# EAGLE library part MSP430G2553 (library DC_LOAD_AU)
MSP430G2553 MSP430G2x53, MSP430G2x13 PDIP (N) 20 Pin Package http://focus.ti.com/docs/prod/folders/print/msp430g2553.html
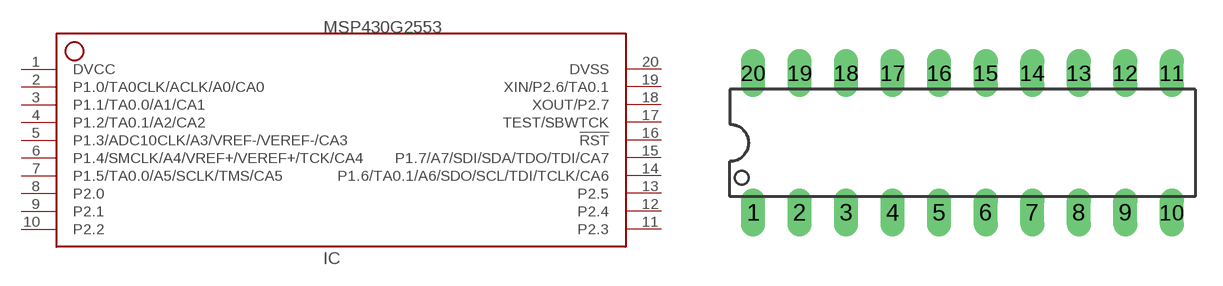
[diagram p0: symbol with the pads of N20; footprint N20]

Designator prefix IC

## MSP430G2553  [N20]
1  DVCC
2  P1.0/TA0CLK/ACLK/A0/CA0
3  P1.1/TA0.0/A1/CA1
4  P1.2/TA0.1/A2/CA2
5  P1.3/ADC10CLK/A3/VREF-/VEREF-/CA3
6  P1.4/SMCLK/A4/VREF+/VEREF+/TCK/CA4
7  P1.5/TA0.0/A5/SCLK/TMS/CA5
8  P2.0
9  P2.1
10  P2.2
11  P2.3
12  P2.4
13  P2.5
14  P1.6/TA0.1/A6/SDO/SCL/TDI/TCLK/CA6
15  P1.7/A7/SDI/SDA/TDO/TDI/CA7
16  !RST
17  TEST/SBWTCK
18  XOUT/P2.7
19  XIN/P2.6/TA0.1
20  DVSS

## Footprint N20 (pad centres in mm)
drill 0.813 long: 1 -11.435,-3.81; 2 -8.895,-3.81; 3 -6.355,-3.81; 4 -3.815,-3.81; 5 -1.275,-3.81; 6 1.265,-3.81; 7 3.805,-3.81; 8 6.345,-3.81; 9 8.885,-3.81; 10 11.425,-3.81; 11 11.425,3.81; 12 8.885,3.81; 13 6.345,3.81; 14 3.805,3.81; 15 1.265,3.81; 16 -1.275,3.81; 17 -3.815,3.81; 18 -6.355,3.81; 19 -8.895,3.81; 20 -11.435,3.81